# Altium integrated library Analog Devices Data Converters Analog-to-Digital Converters.IntLib: 2404 symbols (part 145 of 346)
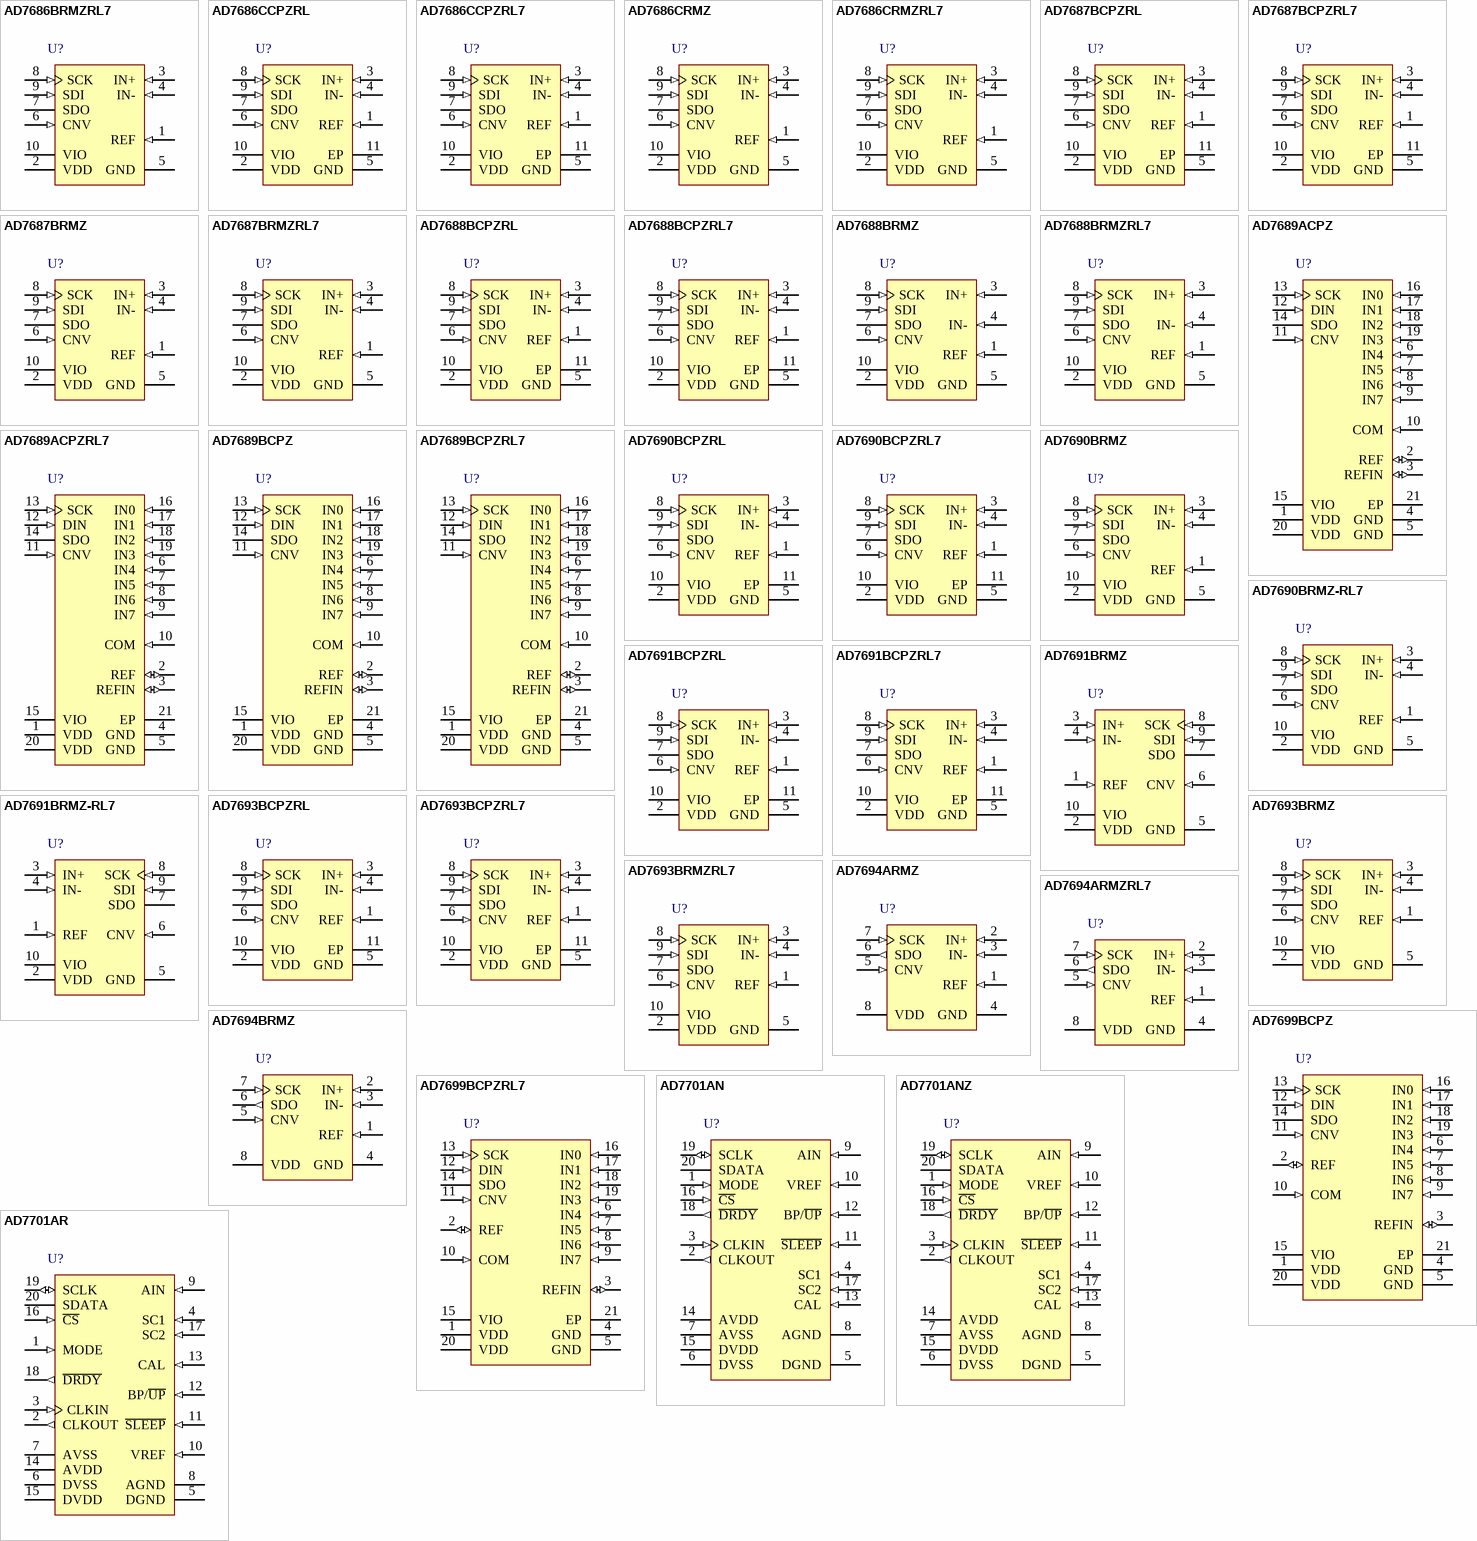
[diagram p235: symbols AD7686BRMZRL7 to AD7701AR]

## AD7701AR
designator U?
Single 16-Bit Analog-to-Digital Converter with Serial Interface, LC2MOS, 4KSPS, -40 to +85 degC, RW-20, Tube; Generic Part Number: AD7701; Manufacturer: Analog Devices; PartNumber: AD7701AR; Resolution (Bits): 16; Channels: 1; Throughput Rate (SPS): 4K; Interface: Ser; DatasheetVersion: Rev.E; PackageVersion: 060706-A; PackageReference: RW-20; PackageDescription: 20-Lead Standard Small Outline Package [SOIC_W] Wide Body; Supplier 1: Digi-Key; Supplier Part Number 1: AD7701AR-ND; Supplier 2: Mouser; Supplier Part Number 2: 584-AD7701AR; RoHS: N; Packing: Tube; Mounting Technology: Surface Mount; Code_JEDEC: MS-013-AC; ComponentLink1Description: Manufacturer URL; ComponentLink1URL: http://www.analog.com/en/index.html; ComponentLink2Description: Datasheet; ComponentLink2URL: http://www.analog.com/static/imported-files/data_sheets/AD7701.pdf; ComponentLink3Description: Package Specification; ComponentLink3URL: http://www.analog.com/static/imported-files/packages/233848RW_20.pdf; ComponentLink4Description: Product URL; ComponentLink4URL: http://www.analog.com/en/analog-to-digital-converters/ad-converters/ad7701/products/product.html
footprint RW-20_N (SOIC, 20-Leads, Body 12.8x7.5mm, Pitch 1.27mm, IPC Medium Density)
footprint RW-20_L (SOIC, 20-Leads, Body 12.8x7.5mm, Pitch 1.27mm, IPC High Density)
footprint RW-20_M (SOIC, 20-Leads, Body 12.8x7.5mm, Pitch 1.27mm, IPC Low Density)
pins: 1 MODE (in) "Selects the Serial Interface Mode. If MODE is tied to -5 V, the AD7701 will operate in the Asynchronous Communications (AC) mode. The SCLK pin is configured as an input, and data is transmitted in two bytes, each with one (See Datasheet)", 2 CLKOUT (out) "Clock Output to Generate an Internal Master Clock by Connecting a Crystal between CLKOUT and CLKIN. If an external clock is used, CLKOUT is not connected.", 3 CLKIN (in) "Clock Input for External Clock.", 4 SC1 (in) "System Calibration Pins. The state of these pins, when CAL is taken high, determines the type of calibration performed.", 5 DGND (power) "Digital Ground. Ground reference for all digital signals.", 6 DVSS (power) "Digital Negative Supply, -5 V Nominal.", 7 AVSS (power) "Analog Negative Supply, -5 V Nominal.", 8 AGND (power) "Analog Ground. Ground reference for all analog signals.", 9 AIN (in) "Analog Input.", 10 VREF (in) "Voltage Reference Input, 2.5 V Nominal. This determines the value of positive full scale in the Unipolar mode and of both positive and negative full scale in Bipolar mode.", 11 ~{SLEEP} (in) "Sleep Mode Pin. When this pin is taken low, the AD7701 goes into a low power mode with typically 10 µW power consumption.", 12 BP/~{UP} (in) "Bipolar/Unipolar Mode Pin. When this pin is low, the AD7701 is configured for a unipolar input range going from AGND to VREF. When Pin 12 is high, the AD7701 is configured for a bipolar input range, +/-VREF.", 13 CAL (in) "Calibration Mode Pin. When CAL is taken high for more than four cycles, the AD7701 is reset and performs a calibration cycle when CAL is brought low again. The CAL pin can also be used as a strobe to synchronize the (See Datasheet)", 14 AVDD (power) "Analog Positive Supply, +5 V Nominal.", 15 DVDD (power) "Digital Positive Supply, +5 V Nominal.", 16 ~{CS} (in) "Chip Select Input. When C\S\ is brought low, the AD7701 will begin to transmit serial data in a format determined by the state of the MODE pin.", 17 SC2 (in) "System Calibration Pins. The state of these pins, when CAL is taken high, determines the type of calibration performed.", 18 ~{DRDY} (out) "Data Ready Output. D\R\D\Y\ is low when valid data is available in the output register. It goes high after transmission of a word is completed. It also goes high for four clock cycles when a new data-word is being loaded (See Datasheet)", 19 SCLK (io) "Serial Clock Input/Output. The SCLK pin is configured as an input or output, dependent on the type of serial data transmission that has been selected by the MODE pin.When configured as an output in the Synchronous (See Datasheet)", 20 SDATA (hiz) "Serial Data Output. The AD7701's output data is available at this pin as a 16-bit serial word. The transmission format is determined by the state of the MODE pin."

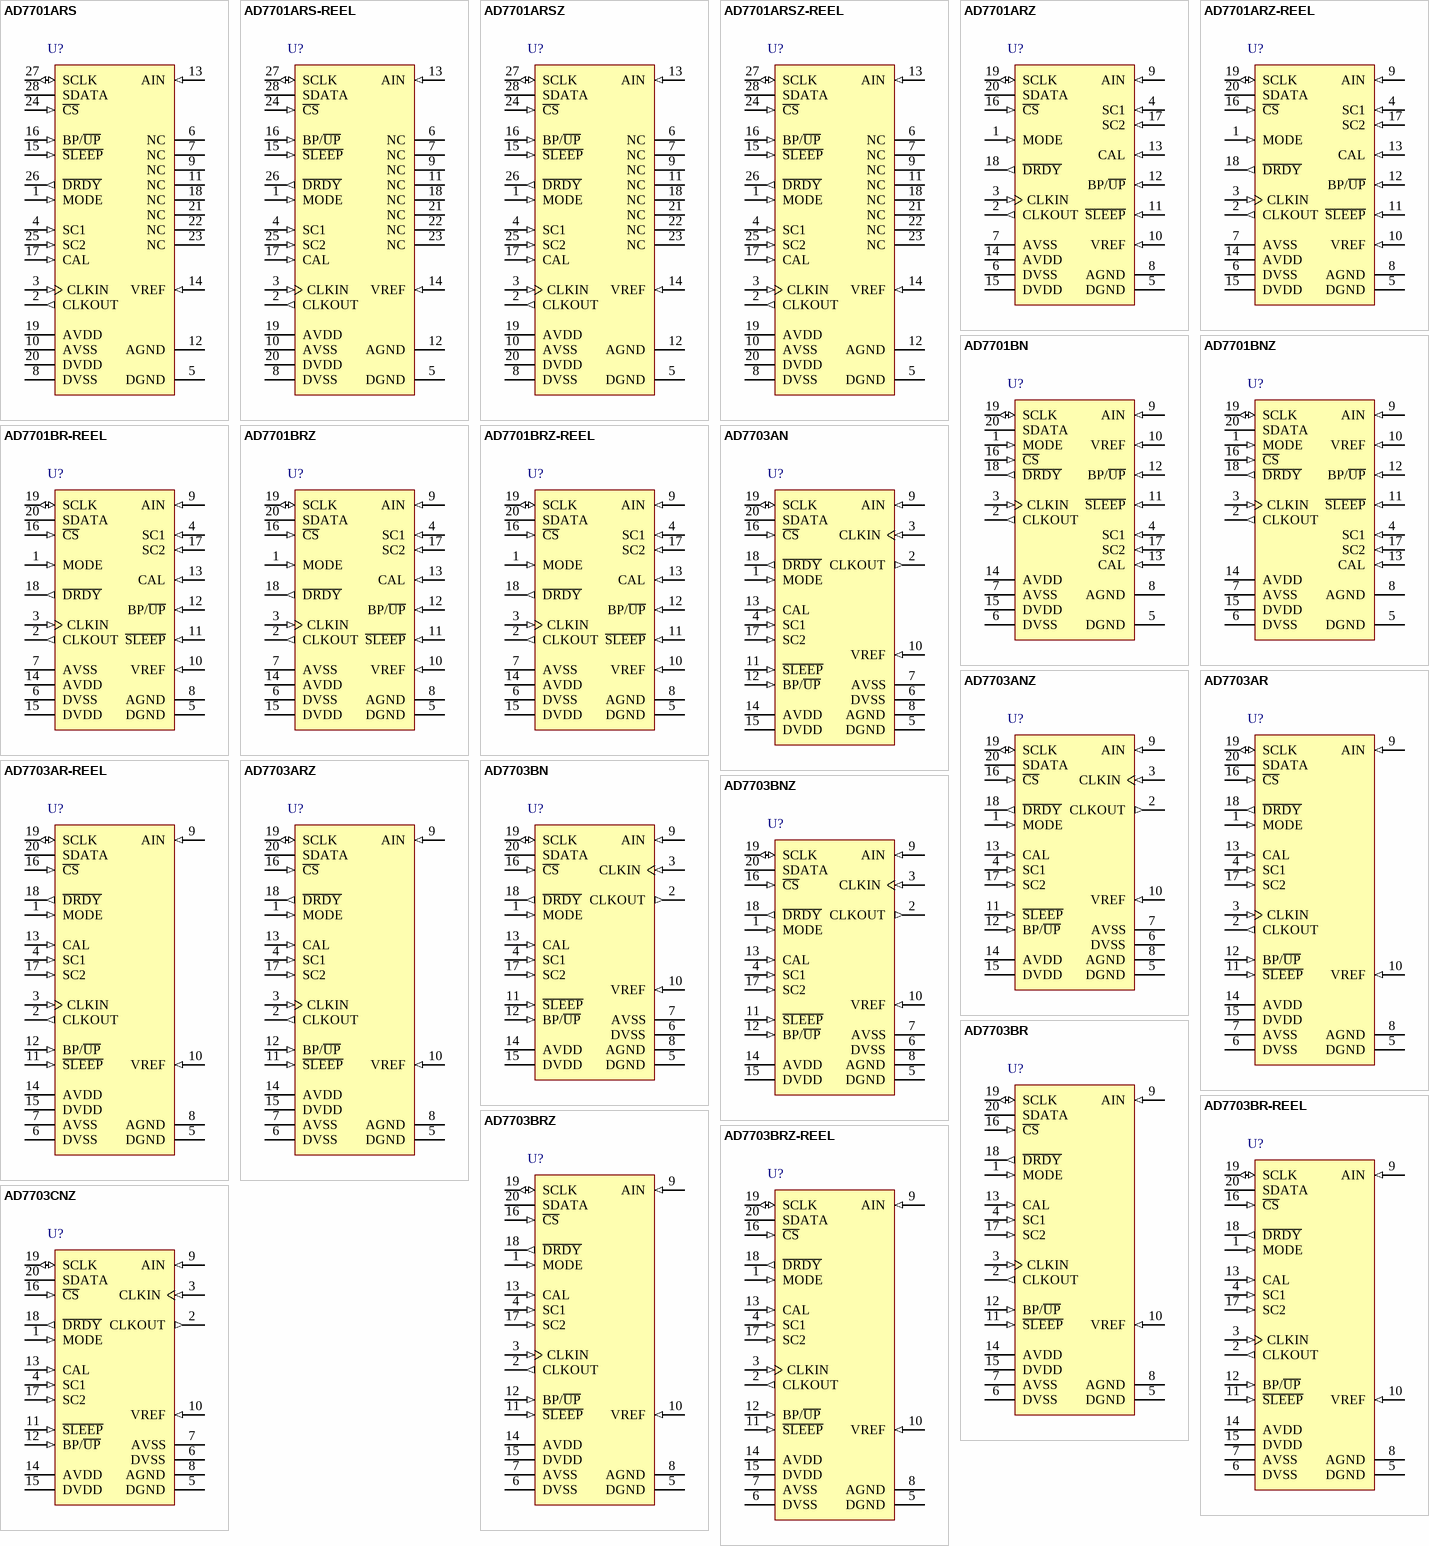
[diagram p46: symbols AD7701ARS to AD7703CNZ]

## AD7701ARS
designator U?
Single 16-Bit Analog-to-Digital Converter with Serial Interface, LC2MOS, 4KSPS, -40 to +85 degC, RS-28, Tube; Generic Part Number: AD7701; Manufacturer: Analog Devices; PartNumber: AD7701ARS; Resolution (Bits): 16; Channels: 1; Throughput Rate (SPS): 4K; Interface: Ser; DatasheetVersion: Rev.E; PackageVersion: 060106-A; PackageReference: RS-28; PackageDescription: 28-Lead Shrink Small Outline Package [SSOP]; Supplier 1: Digi-Key; Supplier Part Number 1: AD7701ARS-ND; Supplier 2: Mouser; Supplier Part Number 2: 584-AD7701ARS; RoHS: N; Packing: Tube; Mounting Technology: Surface Mount; Code_JEDEC: MO-150-AH; ComponentLink1Description: Manufacturer URL; ComponentLink1URL: http://www.analog.com/en/index.html; ComponentLink2Description: Datasheet; ComponentLink2URL: http://www.analog.com/static/imported-files/data_sheets/AD7701.pdf; ComponentLink3Description: Package Specification; ComponentLink3URL: http://www.analog.com/static/imported-files/packages/32122249223724RS_28.pdf; ComponentLink4Description: Product URL; ComponentLink4URL: http://www.analog.com/en/analog-to-digital-converters/ad-converters/ad7701/products/product.html
footprint RS-28_N (SOP, 28-Leads, Body 10.2x5.3mm, Pitch 0.65mm, IPC Medium Density)
footprint RS-28_L (SOP, 28-Leads, Body 10.2x5.3mm, Pitch 0.65mm, IPC High Density)
footprint RS-28_M (SOP, 28-Leads, Body 10.2x5.3mm, Pitch 0.65mm, IPC Low Density)
pins: 1 MODE (in) "Selects the Serial Interface Mode. If MODE is tied to -5 V, the AD7701 will operate in the Asynchronous Communications (AC) mode. The SCLK pin is configured as an input, and data is transmitted in two bytes, each with one (See Datasheet)", 2 CLKOUT (out) "Clock Output to Generate an Internal Master Clock by Connecting a Crystal between CLKOUT and CLKIN. If an external clock is used, CLKOUT is not connected.", 3 CLKIN (in) "Clock Input for External Clock.", 4 SC1 (in) "System Calibration Pins. The state of these pins, when CAL is taken high, determines the type of calibration performed.", 5 DGND (power) "Digital Ground. Ground reference for all digital signals.", 6 NC "No Connect.", 7 NC "No Connect.", 8 DVSS (power) "Digital Negative Supply, -5 V Nominal.", 9 NC "No Connect.", 10 AVSS (power) "Analog Negative Supply, -5 V Nominal.", 11 NC "No Connect.", 12 AGND (power) "Analog Ground. Ground reference for all analog signals.", 13 AIN (in) "Analog Input.", 14 VREF (in) "Voltage Reference Input, 2.5 V Nominal. This determines the value of positive full scale in the Unipolar mode and of both positive and negative full scale in Bipolar mode.", 15 ~{SLEEP} (in) "Sleep Mode Pin. When this pin is taken low, the AD7701 goes into a low power mode with typically 10 uW power consumption.", 16 BP/~{UP} (in) "Bipolar/Unipolar Mode Pin. When this pin is low, the AD7701 is configured for a unipolar input range going from AGND to VREF. When Pin 12 is high, the AD7701 is configured for a bipolar input range, +/-VREF.", 17 CAL (in) "Calibration Mode Pin. When CAL is taken high for more than four cycles, the AD7701 is reset and performs a calibration cycle when CAL is brought low again. The CAL pin can also be used as a strobe to synchronize the (See Datasheet)", 18 NC "No Connect.", 19 AVDD (power) "Analog Positive Supply, +5 V Nominal.", 20 DVDD (power) "Digital Positive Supply, +5 V Nominal.", 21 NC "No Connect.", 22 NC "No Connect.", 23 NC "No Connect.", 24 ~{CS} (in) "Chip Select Input. When C\S\ is brought low, the AD7701 will begin to transmit serial data in a format determined by the state of the MODE pin.", 25 SC2 (in) "System Calibration Pins. The state of these pins, when CAL is taken high, determines the type of calibration performed.", 26 ~{DRDY} (out) "Data Ready Output. D\R\D\Y\ is low when valid data is available in the output register. It goes high after transmission of a word is completed. It also goes high for four clock cycles when a new data-word is being loaded (See Datasheet)", 27 SCLK (io) "Serial Clock Input/Output. The SCLK pin is configured as an input or output, dependent on the type of serial data transmission that has been selected by the MODE pin. When configured as an output in the Synchronous (See Datasheet)", 28 SDATA (hiz) "Serial Data Output. The AD7701’s output data is available at this pin as a 16-bit serial word. The transmission format is determined by the state of the MODE pin."

## AD7701ARS-REEL
designator U?
Single 16-Bit Analog-to-Digital Converter with Serial Interface, LC2MOS, 4KSPS, -40 to +85 degC, RS-28, Reel; Generic Part Number: AD7701; Manufacturer: Analog Devices; PartNumber: AD7701ARS-REEL; Resolution (Bits): 16; Channels: 1; Throughput Rate (SPS): 4K; Interface: Ser; DatasheetVersion: Rev.E; PackageVersion: 060106-A; PackageReference: RS-28; PackageDescription: 28-Lead Shrink Small Outline Package [SSOP]; Supplier 1: Digi-Key; Supplier Part Number 1: AD7701ARS-REEL-ND; Supplier 2: Mouser; Supplier Part Number 2: 584-AD7701ARS-R; RoHS: N; Packing: Reel; Mounting Technology: Surface Mount; Code_JEDEC: MO-150-AH; ComponentLink1Description: Manufacturer URL; ComponentLink1URL: http://www.analog.com/en/index.html; ComponentLink2Description: Datasheet; ComponentLink2URL: http://www.analog.com/static/imported-files/data_sheets/AD7701.pdf; ComponentLink3Description: Package Specification; ComponentLink3URL: http://www.analog.com/static/imported-files/packages/32122249223724RS_28.pdf; ComponentLink4Description: Product URL; ComponentLink4URL: http://www.analog.com/en/analog-to-digital-converters/ad-converters/ad7701/products/product.html
footprint RS-28_N (SOP, 28-Leads, Body 10.2x5.3mm, Pitch 0.65mm, IPC Medium Density)
footprint RS-28_L (SOP, 28-Leads, Body 10.2x5.3mm, Pitch 0.65mm, IPC High Density)
footprint RS-28_M (SOP, 28-Leads, Body 10.2x5.3mm, Pitch 0.65mm, IPC Low Density)
pins: 1 MODE (in) "Selects the Serial Interface Mode. If MODE is tied to -5 V, the AD7701 will operate in the Asynchronous Communications (AC) mode. The SCLK pin is configured as an input, and data is transmitted in two bytes, each with one (See Datasheet)", 2 CLKOUT (out) "Clock Output to Generate an Internal Master Clock by Connecting a Crystal between CLKOUT and CLKIN. If an external clock is used, CLKOUT is not connected.", 3 CLKIN (in) "Clock Input for External Clock.", 4 SC1 (in) "System Calibration Pins. The state of these pins, when CAL is taken high, determines the type of calibration performed.", 5 DGND (power) "Digital Ground. Ground reference for all digital signals.", 6 NC "No Connect.", 7 NC "No Connect.", 8 DVSS (power) "Digital Negative Supply, -5 V Nominal.", 9 NC "No Connect.", 10 AVSS (power) "Analog Negative Supply, -5 V Nominal.", 11 NC "No Connect.", 12 AGND (power) "Analog Ground. Ground reference for all analog signals.", 13 AIN (in) "Analog Input.", 14 VREF (in) "Voltage Reference Input, 2.5 V Nominal. This determines the value of positive full scale in the Unipolar mode and of both positive and negative full scale in Bipolar mode.", 15 ~{SLEEP} (in) "Sleep Mode Pin. When this pin is taken low, the AD7701 goes into a low power mode with typically 10 uW power consumption.", 16 BP/~{UP} (in) "Bipolar/Unipolar Mode Pin. When this pin is low, the AD7701 is configured for a unipolar input range going from AGND to VREF. When Pin 12 is high, the AD7701 is configured for a bipolar input range, +/-VREF.", 17 CAL (in) "Calibration Mode Pin. When CAL is taken high for more than four cycles, the AD7701 is reset and performs a calibration cycle when CAL is brought low again. The CAL pin can also be used as a strobe to synchronize the (See Datasheet)", 18 NC "No Connect.", 19 AVDD (power) "Analog Positive Supply, +5 V Nominal.", 20 DVDD (power) "Digital Positive Supply, +5 V Nominal.", 21 NC "No Connect.", 22 NC "No Connect.", 23 NC "No Connect.", 24 ~{CS} (in) "Chip Select Input. When C\S\ is brought low, the AD7701 will begin to transmit serial data in a format determined by the state of the MODE pin.", 25 SC2 (in) "System Calibration Pins. The state of these pins, when CAL is taken high, determines the type of calibration performed.", 26 ~{DRDY} (out) "Data Ready Output. D\R\D\Y\ is low when valid data is available in the output register. It goes high after transmission of a word is completed. It also goes high for four clock cycles when a new data-word is being loaded (See Datasheet)", 27 SCLK (io) "Serial Clock Input/Output. The SCLK pin is configured as an input or output, dependent on the type of serial data transmission that has been selected by the MODE pin. When configured as an output in the Synchronous (See Datasheet)", 28 SDATA (hiz) "Serial Data Output. The AD7701’s output data is available at this pin as a 16-bit serial word. The transmission format is determined by the state of the MODE pin."

## AD7701ARSZ
designator U?
Single 16-Bit Analog-to-Digital Converter with Serial Interface, LC2MOS, 4KSPS, 0 to +70 degC, RS-28, Pb-Free, Tube; Generic Part Number: AD7701; Manufacturer: Analog Devices; PartNumber: AD7701ARSZ; Resolution (Bits): 16; Channels: 1; Throughput Rate (SPS): 4K; Interface: Ser; DatasheetVersion: Rev.E; PackageVersion: 060106-A; PackageReference: RS-28; PackageDescription: 28-Lead Shrink Small Outline Package [SSOP]; Supplier 1: Digi-Key; Supplier Part Number 1: AD7701ARSZ-ND; Supplier 2: Mouser; Supplier Part Number 2: 584-AD7701ARSZ; RoHS: Y; Packing: Tube; Mounting Technology: Surface Mount; Code_JEDEC: MO-150-AH; ComponentLink1Description: Manufacturer URL; ComponentLink1URL: http://www.analog.com/en/index.html; ComponentLink2Description: Datasheet; ComponentLink2URL: http://www.analog.com/static/imported-files/data_sheets/AD7701.pdf; ComponentLink3Description: Package Specification; ComponentLink3URL: http://www.analog.com/static/imported-files/packages/32122249223724RS_28.pdf; ComponentLink4Description: Product URL; ComponentLink4URL: http://www.analog.com/en/analog-to-digital-converters/ad-converters/ad7701/products/product.html
footprint RS-28_N (SOP, 28-Leads, Body 10.2x5.3mm, Pitch 0.65mm, IPC Medium Density)
footprint RS-28_L (SOP, 28-Leads, Body 10.2x5.3mm, Pitch 0.65mm, IPC High Density)
footprint RS-28_M (SOP, 28-Leads, Body 10.2x5.3mm, Pitch 0.65mm, IPC Low Density)
pins: 1 MODE (in) "Selects the Serial Interface Mode. If MODE is tied to -5 V, the AD7701 will operate in the Asynchronous Communications (AC) mode. The SCLK pin is configured as an input, and data is transmitted in two bytes, each with one (See Datasheet)", 2 CLKOUT (out) "Clock Output to Generate an Internal Master Clock by Connecting a Crystal between CLKOUT and CLKIN. If an external clock is used, CLKOUT is not connected.", 3 CLKIN (in) "Clock Input for External Clock.", 4 SC1 (in) "System Calibration Pins. The state of these pins, when CAL is taken high, determines the type of calibration performed.", 5 DGND (power) "Digital Ground. Ground reference for all digital signals.", 6 NC "No Connect.", 7 NC "No Connect.", 8 DVSS (power) "Digital Negative Supply, -5 V Nominal.", 9 NC "No Connect.", 10 AVSS (power) "Analog Negative Supply, -5 V Nominal.", 11 NC "No Connect.", 12 AGND (power) "Analog Ground. Ground reference for all analog signals.", 13 AIN (in) "Analog Input.", 14 VREF (in) "Voltage Reference Input, 2.5 V Nominal. This determines the value of positive full scale in the Unipolar mode and of both positive and negative full scale in Bipolar mode.", 15 ~{SLEEP} (in) "Sleep Mode Pin. When this pin is taken low, the AD7701 goes into a low power mode with typically 10 uW power consumption.", 16 BP/~{UP} (in) "Bipolar/Unipolar Mode Pin. When this pin is low, the AD7701 is configured for a unipolar input range going from AGND to VREF. When Pin 12 is high, the AD7701 is configured for a bipolar input range, +/-VREF.", 17 CAL (in) "Calibration Mode Pin. When CAL is taken high for more than four cycles, the AD7701 is reset and performs a calibration cycle when CAL is brought low again. The CAL pin can also be used as a strobe to synchronize the (See Datasheet)", 18 NC "No Connect.", 19 AVDD (power) "Analog Positive Supply, +5 V Nominal.", 20 DVDD (power) "Digital Positive Supply, +5 V Nominal.", 21 NC "No Connect.", 22 NC "No Connect.", 23 NC "No Connect.", 24 ~{CS} (in) "Chip Select Input. When C\S\ is brought low, the AD7701 will begin to transmit serial data in a format determined by the state of the MODE pin.", 25 SC2 (in) "System Calibration Pins. The state of these pins, when CAL is taken high, determines the type of calibration performed.", 26 ~{DRDY} (out) "Data Ready Output. D\R\D\Y\ is low when valid data is available in the output register. It goes high after transmission of a word is completed. It also goes high for four clock cycles when a new data-word is being loaded (See Datasheet)", 27 SCLK (io) "Serial Clock Input/Output. The SCLK pin is configured as an input or output, dependent on the type of serial data transmission that has been selected by the MODE pin. When configured as an output in the Synchronous (See Datasheet)", 28 SDATA (hiz) "Serial Data Output. The AD7701’s output data is available at this pin as a 16-bit serial word. The transmission format is determined by the state of the MODE pin."

## AD7701ARSZ-REEL
designator U?
Single 16-Bit Analog-to-Digital Converter with Serial Interface, LC2MOS, 4KSPS, 0 to +70 degC, RS-28, Pb-Free, Reel; Generic Part Number: AD7701; Manufacturer: Analog Devices; PartNumber: AD7701ARSZ-REEL; Resolution (Bits): 16; Channels: 1; Throughput Rate (SPS): 4K; Interface: Ser; DatasheetVersion: Rev.E; PackageVersion: 060106-A; PackageReference: RS-28; PackageDescription: 28-Lead Shrink Small Outline Package [SSOP]; Supplier 1: Digi-Key; Supplier Part Number 1: AD7701ARSZ-REEL-ND; Supplier 2: Mouser; Supplier Part Number 2: 584-AD7701ARSZ-R; RoHS: Y; Packing: Reel; Mounting Technology: Surface Mount; Code_JEDEC: MO-150-AH; ComponentLink1Description: Manufacturer URL; ComponentLink1URL: http://www.analog.com/en/index.html; ComponentLink2Description: Datasheet; ComponentLink2URL: http://www.analog.com/static/imported-files/data_sheets/AD7701.pdf; ComponentLink3Description: Package Specification; ComponentLink3URL: http://www.analog.com/static/imported-files/packages/32122249223724RS_28.pdf; ComponentLink4Description: Product URL; ComponentLink4URL: http://www.analog.com/en/analog-to-digital-converters/ad-converters/ad7701/products/product.html
footprint RS-28_N (SOP, 28-Leads, Body 10.2x5.3mm, Pitch 0.65mm, IPC Medium Density)
footprint RS-28_L (SOP, 28-Leads, Body 10.2x5.3mm, Pitch 0.65mm, IPC High Density)
footprint RS-28_M (SOP, 28-Leads, Body 10.2x5.3mm, Pitch 0.65mm, IPC Low Density)
pins: 1 MODE (in) "Selects the Serial Interface Mode. If MODE is tied to -5 V, the AD7701 will operate in the Asynchronous Communications (AC) mode. The SCLK pin is configured as an input, and data is transmitted in two bytes, each with one (See Datasheet)", 2 CLKOUT (out) "Clock Output to Generate an Internal Master Clock by Connecting a Crystal between CLKOUT and CLKIN. If an external clock is used, CLKOUT is not connected.", 3 CLKIN (in) "Clock Input for External Clock.", 4 SC1 (in) "System Calibration Pins. The state of these pins, when CAL is taken high, determines the type of calibration performed.", 5 DGND (power) "Digital Ground. Ground reference for all digital signals.", 6 NC "No Connect.", 7 NC "No Connect.", 8 DVSS (power) "Digital Negative Supply, -5 V Nominal.", 9 NC "No Connect.", 10 AVSS (power) "Analog Negative Supply, -5 V Nominal.", 11 NC "No Connect.", 12 AGND (power) "Analog Ground. Ground reference for all analog signals.", 13 AIN (in) "Analog Input.", 14 VREF (in) "Voltage Reference Input, 2.5 V Nominal. This determines the value of positive full scale in the Unipolar mode and of both positive and negative full scale in Bipolar mode.", 15 ~{SLEEP} (in) "Sleep Mode Pin. When this pin is taken low, the AD7701 goes into a low power mode with typically 10 uW power consumption.", 16 BP/~{UP} (in) "Bipolar/Unipolar Mode Pin. When this pin is low, the AD7701 is configured for a unipolar input range going from AGND to VREF. When Pin 12 is high, the AD7701 is configured for a bipolar input range, +/-VREF.", 17 CAL (in) "Calibration Mode Pin. When CAL is taken high for more than four cycles, the AD7701 is reset and performs a calibration cycle when CAL is brought low again. The CAL pin can also be used as a strobe to synchronize the (See Datasheet)", 18 NC "No Connect.", 19 AVDD (power) "Analog Positive Supply, +5 V Nominal.", 20 DVDD (power) "Digital Positive Supply, +5 V Nominal.", 21 NC "No Connect.", 22 NC "No Connect.", 23 NC "No Connect.", 24 ~{CS} (in) "Chip Select Input. When C\S\ is brought low, the AD7701 will begin to transmit serial data in a format determined by the state of the MODE pin.", 25 SC2 (in) "System Calibration Pins. The state of these pins, when CAL is taken high, determines the type of calibration performed.", 26 ~{DRDY} (out) "Data Ready Output. D\R\D\Y\ is low when valid data is available in the output register. It goes high after transmission of a word is completed. It also goes high for four clock cycles when a new data-word is being loaded (See Datasheet)", 27 SCLK (io) "Serial Clock Input/Output. The SCLK pin is configured as an input or output, dependent on the type of serial data transmission that has been selected by the MODE pin. When configured as an output in the Synchronous (See Datasheet)", 28 SDATA (hiz) "Serial Data Output. The AD7701’s output data is available at this pin as a 16-bit serial word. The transmission format is determined by the state of the MODE pin."

## AD7701ARZ
designator U?
Single 16-Bit Analog-to-Digital Converter with Serial Interface, LC2MOS, 4KSPS, 0 to +70 degC, RW-20, Pb-Free, Tube; Generic Part Number: AD7701; Manufacturer: Analog Devices; PartNumber: AD7701ARZ; Resolution (Bits): 16; Channels: 1; Throughput Rate (SPS): 4K; Interface: Ser; DatasheetVersion: Rev.E; PackageVersion: 060706-A; PackageReference: RW-20; PackageDescription: 20-Lead Standard Small Outline Package [SOIC_W] Wide Body; Supplier 1: Digi-Key; Supplier Part Number 1: AD7701ARZ-ND; Supplier 2: Farnell; Supplier Part Number 2: 1651253; Supplier 3: Newark; Supplier Part Number 3: 59K5268; Supplier 4: Mouser; Supplier Part Number 4: 584-AD7701ARZ; RoHS: Y; Packing: Tube; Mounting Technology: Surface Mount; Code_JEDEC: MS-013-AC; ComponentLink1Description: Manufacturer URL; ComponentLink1URL: http://www.analog.com/en/index.html; ComponentLink2Description: Datasheet; ComponentLink2URL: http://www.analog.com/static/imported-files/data_sheets/AD7701.pdf; ComponentLink3Description: Package Specification; ComponentLink3URL: http://www.analog.com/static/imported-files/packages/233848RW_20.pdf; ComponentLink4Description: Product URL; ComponentLink4URL: http://www.analog.com/en/analog-to-digital-converters/ad-converters/ad7701/products/product.html
footprint RW-20_N (SOIC, 20-Leads, Body 12.8x7.5mm, Pitch 1.27mm, IPC Medium Density)
footprint RW-20_L (SOIC, 20-Leads, Body 12.8x7.5mm, Pitch 1.27mm, IPC High Density)
footprint RW-20_M (SOIC, 20-Leads, Body 12.8x7.5mm, Pitch 1.27mm, IPC Low Density)
pins: 1 MODE (in) "Selects the Serial Interface Mode. If MODE is tied to -5 V, the AD7701 will operate in the Asynchronous Communications (AC) mode. The SCLK pin is configured as an input, and data is transmitted in two bytes, each with one (See Datasheet)", 2 CLKOUT (out) "Clock Output to Generate an Internal Master Clock by Connecting a Crystal between CLKOUT and CLKIN. If an external clock is used, CLKOUT is not connected.", 3 CLKIN (in) "Clock Input for External Clock.", 4 SC1 (in) "System Calibration Pins. The state of these pins, when CAL is taken high, determines the type of calibration performed.", 5 DGND (power) "Digital Ground. Ground reference for all digital signals.", 6 DVSS (power) "Digital Negative Supply, -5 V Nominal.", 7 AVSS (power) "Analog Negative Supply, -5 V Nominal.", 8 AGND (power) "Analog Ground. Ground reference for all analog signals.", 9 AIN (in) "Analog Input.", 10 VREF (in) "Voltage Reference Input, 2.5 V Nominal. This determines the value of positive full scale in the Unipolar mode and of both positive and negative full scale in Bipolar mode.", 11 ~{SLEEP} (in) "Sleep Mode Pin. When this pin is taken low, the AD7701 goes into a low power mode with typically 10 µW power consumption.", 12 BP/~{UP} (in) "Bipolar/Unipolar Mode Pin. When this pin is low, the AD7701 is configured for a unipolar input range going from AGND to VREF. When Pin 12 is high, the AD7701 is configured for a bipolar input range, +/-VREF.", 13 CAL (in) "Calibration Mode Pin. When CAL is taken high for more than four cycles, the AD7701 is reset and performs a calibration cycle when CAL is brought low again. The CAL pin can also be used as a strobe to synchronize the (See Datasheet)", 14 AVDD (power) "Analog Positive Supply, +5 V Nominal.", 15 DVDD (power) "Digital Positive Supply, +5 V Nominal.", 16 ~{CS} (in) "Chip Select Input. When C\S\ is brought low, the AD7701 will begin to transmit serial data in a format determined by the state of the MODE pin.", 17 SC2 (in) "System Calibration Pins. The state of these pins, when CAL is taken high, determines the type of calibration performed.", 18 ~{DRDY} (out) "Data Ready Output. D\R\D\Y\ is low when valid data is available in the output register. It goes high after transmission of a word is completed. It also goes high for four clock cycles when a new data-word is being loaded (See Datasheet)", 19 SCLK (io) "Serial Clock Input/Output. The SCLK pin is configured as an input or output, dependent on the type of serial data transmission that has been selected by the MODE pin.When configured as an output in the Synchronous (See Datasheet)", 20 SDATA (hiz) "Serial Data Output. The AD7701's output data is available at this pin as a 16-bit serial word. The transmission format is determined by the state of the MODE pin."

## AD7701ARZ-REEL
designator U?
Single 16-Bit Analog-to-Digital Converter with Serial Interface, LC2MOS, 4KSPS, 0 to +70 degC, RW-20, Pb-Free, Reel; Generic Part Number: AD7701; Manufacturer: Analog Devices; PartNumber: AD7701ARZ-REEL; Resolution (Bits): 16; Channels: 1; Throughput Rate (SPS): 4K; Interface: Ser; DatasheetVersion: Rev.E; PackageVersion: 060706-A; PackageReference: RW-20; PackageDescription: 20-Lead Standard Small Outline Package [SOIC_W] Wide Body; Supplier 1: Digi-Key; Supplier Part Number 1: AD7701ARZ-REEL-ND; Supplier 2: Newark; Supplier Part Number 2: 74R5988; Supplier 3: Mouser; Supplier Part Number 3: 584-AD7701ARZ-R; RoHS: Y; Packing: Reel; Mounting Technology: Surface Mount; Code_JEDEC: MS-013-AC; ComponentLink1Description: Manufacturer URL; ComponentLink1URL: http://www.analog.com/en/index.html; ComponentLink2Description: Datasheet; ComponentLink2URL: http://www.analog.com/static/imported-files/data_sheets/AD7701.pdf; ComponentLink3Description: Package Specification; ComponentLink3URL: http://www.analog.com/static/imported-files/packages/233848RW_20.pdf; ComponentLink4Description: Product URL; ComponentLink4URL: http://www.analog.com/en/analog-to-digital-converters/ad-converters/ad7701/products/product.html
footprint RW-20_N (SOIC, 20-Leads, Body 12.8x7.5mm, Pitch 1.27mm, IPC Medium Density)
footprint RW-20_L (SOIC, 20-Leads, Body 12.8x7.5mm, Pitch 1.27mm, IPC High Density)
footprint RW-20_M (SOIC, 20-Leads, Body 12.8x7.5mm, Pitch 1.27mm, IPC Low Density)
pins: 1 MODE (in) "Selects the Serial Interface Mode. If MODE is tied to -5 V, the AD7701 will operate in the Asynchronous Communications (AC) mode. The SCLK pin is configured as an input, and data is transmitted in two bytes, each with one (See Datasheet)", 2 CLKOUT (out) "Clock Output to Generate an Internal Master Clock by Connecting a Crystal between CLKOUT and CLKIN. If an external clock is used, CLKOUT is not connected.", 3 CLKIN (in) "Clock Input for External Clock.", 4 SC1 (in) "System Calibration Pins. The state of these pins, when CAL is taken high, determines the type of calibration performed.", 5 DGND (power) "Digital Ground. Ground reference for all digital signals.", 6 DVSS (power) "Digital Negative Supply, -5 V Nominal.", 7 AVSS (power) "Analog Negative Supply, -5 V Nominal.", 8 AGND (power) "Analog Ground. Ground reference for all analog signals.", 9 AIN (in) "Analog Input.", 10 VREF (in) "Voltage Reference Input, 2.5 V Nominal. This determines the value of positive full scale in the Unipolar mode and of both positive and negative full scale in Bipolar mode.", 11 ~{SLEEP} (in) "Sleep Mode Pin. When this pin is taken low, the AD7701 goes into a low power mode with typically 10 µW power consumption.", 12 BP/~{UP} (in) "Bipolar/Unipolar Mode Pin. When this pin is low, the AD7701 is configured for a unipolar input range going from AGND to VREF. When Pin 12 is high, the AD7701 is configured for a bipolar input range, +/-VREF.", 13 CAL (in) "Calibration Mode Pin. When CAL is taken high for more than four cycles, the AD7701 is reset and performs a calibration cycle when CAL is brought low again. The CAL pin can also be used as a strobe to synchronize the (See Datasheet)", 14 AVDD (power) "Analog Positive Supply, +5 V Nominal.", 15 DVDD (power) "Digital Positive Supply, +5 V Nominal.", 16 ~{CS} (in) "Chip Select Input. When C\S\ is brought low, the AD7701 will begin to transmit serial data in a format determined by the state of the MODE pin.", 17 SC2 (in) "System Calibration Pins. The state of these pins, when CAL is taken high, determines the type of calibration performed.", 18 ~{DRDY} (out) "Data Ready Output. D\R\D\Y\ is low when valid data is available in the output register. It goes high after transmission of a word is completed. It also goes high for four clock cycles when a new data-word is being loaded (See Datasheet)", 19 SCLK (io) "Serial Clock Input/Output. The SCLK pin is configured as an input or output, dependent on the type of serial data transmission that has been selected by the MODE pin.When configured as an output in the Synchronous (See Datasheet)", 20 SDATA (hiz) "Serial Data Output. The AD7701's output data is available at this pin as a 16-bit serial word. The transmission format is determined by the state of the MODE pin."

## AD7701BN
designator U?
Single 16-Bit Analog-to-Digital Converter with Serial Interface, LC2MOS, 4KSPS, -40 to +85 degC, N-20, Tube; Generic Part Number: AD7701; Manufacturer: Analog Devices; PartNumber: AD7701BN; Resolution (Bits): 16; Channels: 1; Throughput Rate (SPS): 4K; Interface: Ser; DatasheetVersion: Rev.E; PackageVersion: 070706-A; PackageReference: N-20; PackageDescription: 20-Lead Plastic Dual In-Line Package [PDIP] Narrow Body; Supplier 1: Digi-Key; Supplier Part Number 1: AD7701BN-ND; Supplier 2: Mouser; Supplier Part Number 2: 584-AD7701BN; RoHS: N; Packing: Tube; Mounting Technology: Through-hole; Code_JEDEC: MS-001; ComponentLink1Description: Manufacturer URL; ComponentLink1URL: http://www.analog.com/en/index.html; ComponentLink2Description: Datasheet; ComponentLink2URL: http://www.analog.com/static/imported-files/data_sheets/AD7701.pdf; ComponentLink3Description: Package Specification; ComponentLink3URL: http://www.analog.com/static/imported-files/packages/50601349676519N_20.pdf; ComponentLink4Description: Product URL; ComponentLink4URL: http://www.analog.com/en/analog-to-digital-converters/ad-converters/ad7701/products/product.html
footprint N-20 (DIP, 20-Leads, Row Spacing 7.62mm, Pitch 2.54mm, Body 25.9x6.6mm)
pins: 1 MODE (in) "Selects the Serial Interface Mode. If MODE is tied to -5 V, the AD7701 will operate in the Asynchronous Communications (AC) mode. The SCLK pin is configured as an input, and data is transmitted in two bytes, each with one (See Datasheet)", 2 CLKOUT (out) "Clock Output to Generate an Internal Master Clock by Connecting a Crystal between CLKOUT and CLKIN. If an external clock is used, CLKOUT is not connected.", 3 CLKIN (in) "Clock Input for External Clock.", 4 SC1 (in) "System Calibration Pins. The state of these pins, when CAL is taken high, determines the type of calibration performed.", 5 DGND (power) "Digital Ground. Ground reference for all digital signals.", 6 DVSS (power) "Digital Negative Supply, -5 V Nominal.", 7 AVSS (power) "Analog Negative Supply, -5 V Nominal.", 8 AGND (power) "Analog Ground. Ground reference for all analog signals.", 9 AIN (in) "Analog Input.", 10 VREF (in) "Voltage Reference Input, 2.5 V Nominal. This determines the value of positive full scale in the Unipolar mode and of both positive and negative full scale in Bipolar mode.", 11 ~{SLEEP} (in) "Sleep Mode Pin. When this pin is taken low, the AD7701 goes into a low power mode with typically 10 uW power consumption.", 12 BP/~{UP} (in) "Bipolar/Unipolar Mode Pin. When this pin is low, the AD7701 is configured for a unipolar input range going from AGND to VREF. When Pin 12 is high, the AD7701 is configured for a bipolar input range, +/-VREF.", 13 CAL (in) "Calibration Mode Pin. When CAL is taken high for more than four cycles, the AD7701 is reset and performs a calibration cycle when CAL is brought low again. The CAL pin can also be used as a strobe to synchronize the (See Datasheet)", 14 AVDD (power) "Analog Positive Supply, +5 V Nominal.", 15 DVDD (power) "Digital Positive Supply, +5 V Nominal.", 16 ~{CS} (in) "Chip Select Input. When C\S\ is brought low, the AD7701 will begin to transmit serial data in a format determined by the state of the MODE pin.", 17 SC2 (in) "System Calibration Pins. The state of these pins, when CAL is taken high, determines the type of calibration performed.", 18 ~{DRDY} (out) "Data Ready Output. D\R\D\Y\ is low when valid data is available in the output register. It goes high after transmission of a word is completed. It also goes high for four clock cycles when a new data-word is being loaded (See Datasheet)", 19 SCLK (io) "Serial Clock Input/Output. The SCLK pin is configured as an input or output, dependent on the type of serial data transmission that has been selected by the MODE pin.When configured as an output in the Synchronous Self (See Datasheet)", 20 SDATA (hiz) "Serial Data Output. The AD7701's output data is available at this pin as a 16-bit serial word. The transmission format is determined by the state of the MODE pin."

## AD7701BNZ
designator U?
Single 16-Bit Analog-to-Digital Converter with Serial Interface, LC2MOS, 4KSPS, -40 to +85 degC, N-20, Pb-Free, Tube; Generic Part Number: AD7701; Manufacturer: Analog Devices; PartNumber: AD7701BNZ; Resolution (Bits): 16; Channels: 1; Throughput Rate (SPS): 4K; Interface: Ser; DatasheetVersion: Rev.E; PackageVersion: 070706-A; PackageReference: N-20; PackageDescription: 20-Lead Plastic Dual In-Line Package [PDIP] Narrow Body; Supplier 1: Digi-Key; Supplier Part Number 1: AD7701BNZ-ND; Supplier 2: Farnell; Supplier Part Number 2: 1438536; Supplier 3: Newark; Supplier Part Number 3: 59K5269; Supplier 4: Mouser; Supplier Part Number 4: 584-AD7701BNZ; RoHS: Y; Packing: Tube; Mounting Technology: Through-hole; Code_JEDEC: MS-001; ComponentLink1Description: Manufacturer URL; ComponentLink1URL: http://www.analog.com/en/index.html; ComponentLink2Description: Datasheet; ComponentLink2URL: http://www.analog.com/static/imported-files/data_sheets/AD7701.pdf; ComponentLink3Description: Package Specification; ComponentLink3URL: http://www.analog.com/static/imported-files/packages/50601349676519N_20.pdf; ComponentLink4Description: Product URL; ComponentLink4URL: http://www.analog.com/en/analog-to-digital-converters/ad-converters/ad7701/products/product.html
footprint N-20 (DIP, 20-Leads, Row Spacing 7.62mm, Pitch 2.54mm, Body 25.9x6.6mm)
pins: 1 MODE (in) "Selects the Serial Interface Mode. If MODE is tied to -5 V, the AD7701 will operate in the Asynchronous Communications (AC) mode. The SCLK pin is configured as an input, and data is transmitted in two bytes, each with one (See Datasheet)", 2 CLKOUT (out) "Clock Output to Generate an Internal Master Clock by Connecting a Crystal between CLKOUT and CLKIN. If an external clock is used, CLKOUT is not connected.", 3 CLKIN (in) "Clock Input for External Clock.", 4 SC1 (in) "System Calibration Pins. The state of these pins, when CAL is taken high, determines the type of calibration performed.", 5 DGND (power) "Digital Ground. Ground reference for all digital signals.", 6 DVSS (power) "Digital Negative Supply, -5 V Nominal.", 7 AVSS (power) "Analog Negative Supply, -5 V Nominal.", 8 AGND (power) "Analog Ground. Ground reference for all analog signals.", 9 AIN (in) "Analog Input.", 10 VREF (in) "Voltage Reference Input, 2.5 V Nominal. This determines the value of positive full scale in the Unipolar mode and of both positive and negative full scale in Bipolar mode.", 11 ~{SLEEP} (in) "Sleep Mode Pin. When this pin is taken low, the AD7701 goes into a low power mode with typically 10 uW power consumption.", 12 BP/~{UP} (in) "Bipolar/Unipolar Mode Pin. When this pin is low, the AD7701 is configured for a unipolar input range going from AGND to VREF. When Pin 12 is high, the AD7701 is configured for a bipolar input range, +/-VREF.", 13 CAL (in) "Calibration Mode Pin. When CAL is taken high for more than four cycles, the AD7701 is reset and performs a calibration cycle when CAL is brought low again. The CAL pin can also be used as a strobe to synchronize the (See Datasheet)", 14 AVDD (power) "Analog Positive Supply, +5 V Nominal.", 15 DVDD (power) "Digital Positive Supply, +5 V Nominal.", 16 ~{CS} (in) "Chip Select Input. When C\S\ is brought low, the AD7701 will begin to transmit serial data in a format determined by the state of the MODE pin.", 17 SC2 (in) "System Calibration Pins. The state of these pins, when CAL is taken high, determines the type of calibration performed.", 18 ~{DRDY} (out) "Data Ready Output. D\R\D\Y\ is low when valid data is available in the output register. It goes high after transmission of a word is completed. It also goes high for four clock cycles when a new data-word is being loaded (See Datasheet)", 19 SCLK (io) "Serial Clock Input/Output. The SCLK pin is configured as an input or output, dependent on the type of serial data transmission that has been selected by the MODE pin.When configured as an output in the Synchronous Self (See Datasheet)", 20 SDATA (hiz) "Serial Data Output. The AD7701's output data is available at this pin as a 16-bit serial word. The transmission format is determined by the state of the MODE pin."

## AD7701BR-REEL
designator U?
Single 16-Bit Analog-to-Digital Converter with Serial Interface, LC2MOS, 4KSPS, -40 to +85 degC, RW-20, Reel; Generic Part Number: AD7701; Manufacturer: Analog Devices; PartNumber: AD7701BR-REEL; Resolution (Bits): 16; Channels: 1; Throughput Rate (SPS): 4K; Interface: Ser; DatasheetVersion: Rev.E; PackageVersion: 060706-A; PackageReference: RW-20; PackageDescription: 20-Lead Standard Small Outline Package [SOIC_W] Wide Body; Supplier 1: Mouser; Supplier Part Number 1: N/A; RoHS: N; Packing: Reel; Mounting Technology: Surface Mount; Code_JEDEC: MS-013-AC; ComponentLink1Description: Manufacturer URL; ComponentLink1URL: http://www.analog.com/en/index.html; ComponentLink2Description: Datasheet; ComponentLink2URL: http://www.analog.com/static/imported-files/data_sheets/AD7701.pdf; ComponentLink3Description: Package Specification; ComponentLink3URL: http://www.analog.com/static/imported-files/packages/233848RW_20.pdf; ComponentLink4Description: Product URL; ComponentLink4URL: http://www.analog.com/en/analog-to-digital-converters/ad-converters/ad7701/products/product.html
footprint RW-20_N (SOIC, 20-Leads, Body 12.8x7.5mm, Pitch 1.27mm, IPC Medium Density)
footprint RW-20_L (SOIC, 20-Leads, Body 12.8x7.5mm, Pitch 1.27mm, IPC High Density)
footprint RW-20_M (SOIC, 20-Leads, Body 12.8x7.5mm, Pitch 1.27mm, IPC Low Density)
pins: 1 MODE (in) "Selects the Serial Interface Mode. If MODE is tied to -5 V, the AD7701 will operate in the Asynchronous Communications (AC) mode. The SCLK pin is configured as an input, and data is transmitted in two bytes, each with one (See Datasheet)", 2 CLKOUT (out) "Clock Output to Generate an Internal Master Clock by Connecting a Crystal between CLKOUT and CLKIN. If an external clock is used, CLKOUT is not connected.", 3 CLKIN (in) "Clock Input for External Clock.", 4 SC1 (in) "System Calibration Pins. The state of these pins, when CAL is taken high, determines the type of calibration performed.", 5 DGND (power) "Digital Ground. Ground reference for all digital signals.", 6 DVSS (power) "Digital Negative Supply, -5 V Nominal.", 7 AVSS (power) "Analog Negative Supply, -5 V Nominal.", 8 AGND (power) "Analog Ground. Ground reference for all analog signals.", 9 AIN (in) "Analog Input.", 10 VREF (in) "Voltage Reference Input, 2.5 V Nominal. This determines the value of positive full scale in the Unipolar mode and of both positive and negative full scale in Bipolar mode.", 11 ~{SLEEP} (in) "Sleep Mode Pin. When this pin is taken low, the AD7701 goes into a low power mode with typically 10 µW power consumption.", 12 BP/~{UP} (in) "Bipolar/Unipolar Mode Pin. When this pin is low, the AD7701 is configured for a unipolar input range going from AGND to VREF. When Pin 12 is high, the AD7701 is configured for a bipolar input range, +/-VREF.", 13 CAL (in) "Calibration Mode Pin. When CAL is taken high for more than four cycles, the AD7701 is reset and performs a calibration cycle when CAL is brought low again. The CAL pin can also be used as a strobe to synchronize the (See Datasheet)", 14 AVDD (power) "Analog Positive Supply, +5 V Nominal.", 15 DVDD (power) "Digital Positive Supply, +5 V Nominal.", 16 ~{CS} (in) "Chip Select Input. When C\S\ is brought low, the AD7701 will begin to transmit serial data in a format determined by the state of the MODE pin.", 17 SC2 (in) "System Calibration Pins. The state of these pins, when CAL is taken high, determines the type of calibration performed.", 18 ~{DRDY} (out) "Data Ready Output. D\R\D\Y\ is low when valid data is available in the output register. It goes high after transmission of a word is completed. It also goes high for four clock cycles when a new data-word is being loaded (See Datasheet)", 19 SCLK (io) "Serial Clock Input/Output. The SCLK pin is configured as an input or output, dependent on the type of serial data transmission that has been selected by the MODE pin.When configured as an output in the Synchronous (See Datasheet)", 20 SDATA (hiz) "Serial Data Output. The AD7701's output data is available at this pin as a 16-bit serial word. The transmission format is determined by the state of the MODE pin."

## AD7701BRZ
designator U?
Single 16-Bit Analog-to-Digital Converter with Serial Interface, LC2MOS, 4KSPS, 0 to +70 degC, RW-20, Pb-Free, Tube; Generic Part Number: AD7701; Manufacturer: Analog Devices; PartNumber: AD7701BRZ; Resolution (Bits): 16; Channels: 1; Throughput Rate (SPS): 4K; Interface: Ser; DatasheetVersion: Rev.E; PackageVersion: 060706-A; PackageReference: RW-20; PackageDescription: 20-Lead Standard Small Outline Package [SOIC_W] Wide Body; Supplier 1: Digi-Key; Supplier Part Number 1: AD7701BRZ-ND; Supplier 2: Newark; Supplier Part Number 2: 59K5270; Supplier 3: Mouser; Supplier Part Number 3: 584-AD7701BRZ; RoHS: Y; Packing: Tube; Mounting Technology: Surface Mount; Code_JEDEC: MS-013-AC; ComponentLink1Description: Manufacturer URL; ComponentLink1URL: http://www.analog.com/en/index.html; ComponentLink2Description: Datasheet; ComponentLink2URL: http://www.analog.com/static/imported-files/data_sheets/AD7701.pdf; ComponentLink3Description: Package Specification; ComponentLink3URL: http://www.analog.com/static/imported-files/packages/233848RW_20.pdf; ComponentLink4Description: Product URL; ComponentLink4URL: http://www.analog.com/en/analog-to-digital-converters/ad-converters/ad7701/products/product.html
footprint RW-20_N (SOIC, 20-Leads, Body 12.8x7.5mm, Pitch 1.27mm, IPC Medium Density)
footprint RW-20_L (SOIC, 20-Leads, Body 12.8x7.5mm, Pitch 1.27mm, IPC High Density)
footprint RW-20_M (SOIC, 20-Leads, Body 12.8x7.5mm, Pitch 1.27mm, IPC Low Density)
pins: 1 MODE (in) "Selects the Serial Interface Mode. If MODE is tied to -5 V, the AD7701 will operate in the Asynchronous Communications (AC) mode. The SCLK pin is configured as an input, and data is transmitted in two bytes, each with one (See Datasheet)", 2 CLKOUT (out) "Clock Output to Generate an Internal Master Clock by Connecting a Crystal between CLKOUT and CLKIN. If an external clock is used, CLKOUT is not connected.", 3 CLKIN (in) "Clock Input for External Clock.", 4 SC1 (in) "System Calibration Pins. The state of these pins, when CAL is taken high, determines the type of calibration performed.", 5 DGND (power) "Digital Ground. Ground reference for all digital signals.", 6 DVSS (power) "Digital Negative Supply, -5 V Nominal.", 7 AVSS (power) "Analog Negative Supply, -5 V Nominal.", 8 AGND (power) "Analog Ground. Ground reference for all analog signals.", 9 AIN (in) "Analog Input.", 10 VREF (in) "Voltage Reference Input, 2.5 V Nominal. This determines the value of positive full scale in the Unipolar mode and of both positive and negative full scale in Bipolar mode.", 11 ~{SLEEP} (in) "Sleep Mode Pin. When this pin is taken low, the AD7701 goes into a low power mode with typically 10 µW power consumption.", 12 BP/~{UP} (in) "Bipolar/Unipolar Mode Pin. When this pin is low, the AD7701 is configured for a unipolar input range going from AGND to VREF. When Pin 12 is high, the AD7701 is configured for a bipolar input range, +/-VREF.", 13 CAL (in) "Calibration Mode Pin. When CAL is taken high for more than four cycles, the AD7701 is reset and performs a calibration cycle when CAL is brought low again. The CAL pin can also be used as a strobe to synchronize the (See Datasheet)", 14 AVDD (power) "Analog Positive Supply, +5 V Nominal.", 15 DVDD (power) "Digital Positive Supply, +5 V Nominal.", 16 ~{CS} (in) "Chip Select Input. When C\S\ is brought low, the AD7701 will begin to transmit serial data in a format determined by the state of the MODE pin.", 17 SC2 (in) "System Calibration Pins. The state of these pins, when CAL is taken high, determines the type of calibration performed.", 18 ~{DRDY} (out) "Data Ready Output. D\R\D\Y\ is low when valid data is available in the output register. It goes high after transmission of a word is completed. It also goes high for four clock cycles when a new data-word is being loaded (See Datasheet)", 19 SCLK (io) "Serial Clock Input/Output. The SCLK pin is configured as an input or output, dependent on the type of serial data transmission that has been selected by the MODE pin.When configured as an output in the Synchronous (See Datasheet)", 20 SDATA (hiz) "Serial Data Output. The AD7701's output data is available at this pin as a 16-bit serial word. The transmission format is determined by the state of the MODE pin."